# EAGLE library part TRANS_PNP_DUAL (library discrete)
Dual PNP Transistors in Single Package The BCM857BS puts two PNP transistors in a single package. Bipolar (BJT) Transistor Array 2 PNP (Dual) 45V 100mA 100MHz 200mW Surface Mount SOT-363 Datasheet <https://www.diodes.com/assets/Datasheets/BCM857BS.pdf> SparkFun Products: SparkFun Pi Servo HAT V2 <https://www.sparkfun.com>
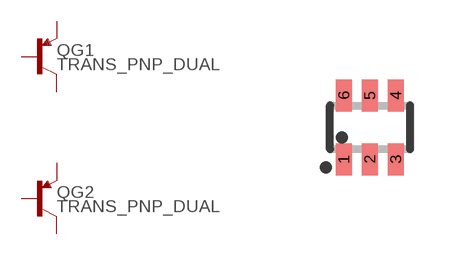
[diagram p9: symbol with the pads of SOT363_PHILIPS; footprint SOT363_PHILIPS]

Designator prefix Q; gates G1=PNP G2=PNP

## TRANS_PNP_DUALSOT-363 (PROD_ID: TRANS-14386)  [SOT363_PHILIPS]
1  G1:E  pas
2  G1:B  pas
3  G2:C  pas
4  G2:E  pas
5  G2:B  pas
6  G1:C  pas

## Footprint SOT363_PHILIPS (pad centres in mm)
Small Outline Transistor; 6 leads Philips Semiconductors, SOT363.pdf
smd 0.4 x 0.8: 1 -0.65,-0.8; 2 0,-0.8; 3 0.65,-0.8; 4 0.65,0.8; 5 0,0.8; 6 -0.65,0.8